# EAGLE library part MAX1613600/VY+T (library 911_circuits)
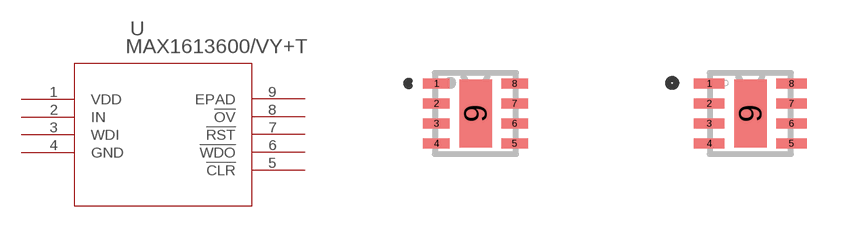
[diagram p5: symbol with the pads of 21-100185_MXM; footprints 21-100185_MXM, 21-100185_MXM-M]

Designator prefix U

## MAX1613600/VY+T (COPYRIGHT: Copyright (C) 2024 Ultra Librarian. All rights reserved.; MANUFACTURER_PART_NUMBER: MAX1613600/VY+T; MFR_NAME: Analog Devices / Maxim Integrated)  [21-100185_MXM]
1  VDD  pwr
2  IN  in
3  WDI  in
4  GND  pas
5  !CLR  in
6  !WDO  out
7  !RST  out
8  !OV  out
9  EPAD  pas

## MAX1613600/VY+T21-100185_MXM-M (COPYRIGHT: Copyright (C) 2024 Ultra Librarian. All rights reserved.; MANUFACTURER_PART_NUMBER: MAX1613600/VY+T; MFR_NAME: Analog Devices / Maxim Integrated)  [21-100185_MXM-M]
Pads as for 21-100185_MXM

## MAX1613600/VY+T21-100185_MXM-L (COPYRIGHT: Copyright (C) 2024 Ultra Librarian. All rights reserved.; MANUFACTURER_PART_NUMBER: MAX1613600/VY+T; MFR_NAME: Analog Devices / Maxim Integrated)  [21-100185_MXM-L]
Pads as for 21-100185_MXM

## Footprint 21-100185_MXM (pad centres in mm)
smd 0.66 x 0.254: 1 -0.978,0.75; 2 -0.978,0.25; 3 -0.978,-0.25; 4 -0.978,-0.75; 5 0.978,-0.75; 6 0.978,-0.25; 7 0.978,0.25; 8 0.978,0.75
smd 0.813 x 1.702: 9 0,0

## Footprint 21-100185_MXM-M (pad centres in mm)
smd 0.762 x 0.254: 1 -1.029,0.75; 2 -1.029,0.25; 3 -1.029,-0.25; 4 -1.029,-0.75; 5 1.029,-0.75; 6 1.029,-0.25; 7 1.029,0.25; 8 1.029,0.75
smd 0.813 x 1.702: 9 0,0

## Footprint 21-100185_MXM-L (pad centres in mm)
smd 0.559 x 0.254: 1 -0.927,0.75; 2 -0.927,0.25; 3 -0.927,-0.25; 4 -0.927,-0.75; 5 0.927,-0.75; 6 0.927,-0.25; 7 0.927,0.25; 8 0.927,0.75
smd 0.813 x 1.702: 9 0,0